# EAGLE library part 6513 (library commodore)
* 4k addressable bytes of memory (A0-A11) * Two phase clock input * #IRQ and #NMI interrupt * 8bit bi-dir data bus Information is taken from "Commodore Semiconductor Group - NMOS 6502 MICROPROCESSORS NOVEMBER 1985".
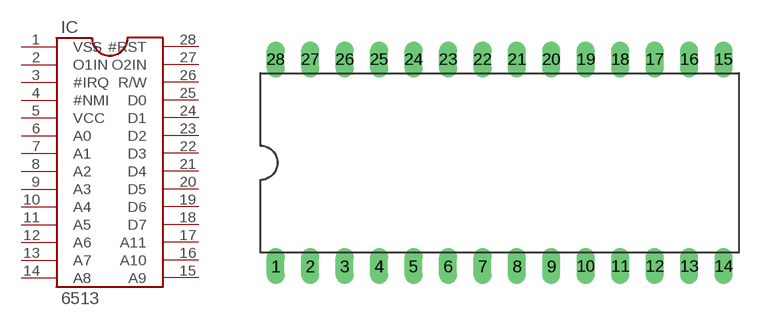
[diagram p8: symbol with the pads of DIL28-6; footprint DIL28-6]

Designator prefix IC

## 6513  [DIL28-6]
1  VSS
2  O1IN
3  #IRQ
4  #NMI
5  VCC
6  A0
7  A1
8  A2
9  A3
10  A4
11  A5
12  A6
13  A7
14  A8
15  A9
16  A10
17  A11
18  D7
19  D6
20  D5
21  D4
22  D3
23  D2
24  D1
25  D0
26  R/W
27  O2IN
28  #RST

## Footprint DIL28-6 (pad centres in mm)
Dual In Line Package 0.6 inch
drill 0.813 long: 1 -16.51,-7.62; 2 -13.97,-7.62; 3 -11.43,-7.62; 4 -8.89,-7.62; 5 -6.35,-7.62; 6 -3.81,-7.62; 7 -1.27,-7.62; 8 1.27,-7.62; 9 3.81,-7.62; 10 6.35,-7.62; 11 8.89,-7.62; 12 11.43,-7.62; 13 13.97,-7.62; 14 16.51,-7.62; 15 16.51,7.62; 16 13.97,7.62; 17 11.43,7.62; 18 8.89,7.62; 19 6.35,7.62; 20 3.81,7.62; 21 1.27,7.62; 22 -1.27,7.62; 23 -3.81,7.62; 24 -6.35,7.62; 25 -8.89,7.62; 26 -11.43,7.62; 27 -13.97,7.62; 28 -16.51,7.62